# EAGLE library part 7508111323 (library WE-OLTI)
WE-OLTI Offline Flyback Transformers Characteristics Nominal input voltage: 85–265 VAC (120–375 VDC) Small size Low leakage inductance Multiple-output options Operating temperature: −40 °C to +125 °C Isolation Voltage: 2 kVAC to 5 kVAC Options for fixed frequency or quasi-resonant mode operation Most products meet reinforced insulation Applications Industrial controls USB chargers Utility metering devices Process controls Factory automation Security systems Garage door opener auxiliary supplies Home appliances Especially designed for several ICs from Texas Instruments Details see: www.we-online.com/en/components/products/WE-OLTI Created by Ella 2025-02-06 2025 (C) Würth Elektronik
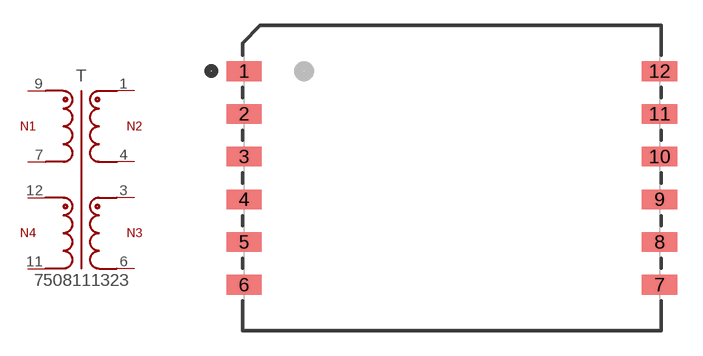
[diagram p28: symbol with the pads of WE-OLTI_EE16/8/5_L17.78W26.9H13.8; footprint WE-OLTI_EE16/8/5_L17.78W26.9H13.8]

Designator prefix T

## 7508111323 (AUXILIARY_VOLTAGE_1: 12 V; CATEGORY: Transformers; DATASHEET: https://www.we-online.com/redexpert/spec/7508111323?ae; HEIGHT: 13.8 mm; INDUCTANCE: 2000 uH; INPUT_VOLTAGE: 85 - 265 V (AC); INSULATION_TEST_VOLTAGE: 625 V (AC); LENGTH: 17.78 mm; MANUFACTURER: Würth Elektronik; MOUNT: THT; MPN: 7508111323; OUTPUT_CURRENT_1: 1000 mA; OUTPUT_VOLTAGE_1: 12 V; SATURATION_CURRENT: 0.5 A; SIZE: EE16/8/5; SWITCHING-FREQUENCY: 50 - 102kHz; TURNS_RATIO: 8:1:1:1; VALUE: 2000 uH; WIDTH: 26.9 mm)  [WE-OLTI_EE16/8/5_L17.78W26.9H13.8]
1  1  pas
3  3  pas
4  4  pas
6  6  pas
7  7  pas
9  9  pas
11  11  pas
12  12  pas

## Footprint WE-OLTI_EE16/8/5_L17.78W26.9H13.8 (pad centres in mm)
WE-OLTI Offline Flyback Transformers Size: EE16/8/5,SMT,12pins LXWXH=17.78X26.9X13.8mm Bobbin: 070-5642
smd 2.1 x 1.17: 1 -12.36,6.35; 2 -12.36,3.81; 3 -12.36,1.27; 4 -12.36,-1.27; 5 -12.36,-3.81; 6 -12.36,-6.35; 7 12.36,-6.35; 8 12.36,-3.81; 9 12.36,-1.27; 10 12.36,1.27; 11 12.36,3.81; 12 12.36,6.35